# Altium footprint library smd_challenge_extreme.PcbLib: 9 footprints
Each footprint in its own frame and in the unit in brackets; x right, y up, seen from the top. Pads: shape width x height; smd on the part's side, far side on the other; paste and mask are expansions set on the pad; w line width, h text height; cw(c..) or ccw(c..) is an arc to the next point about the centre after c.
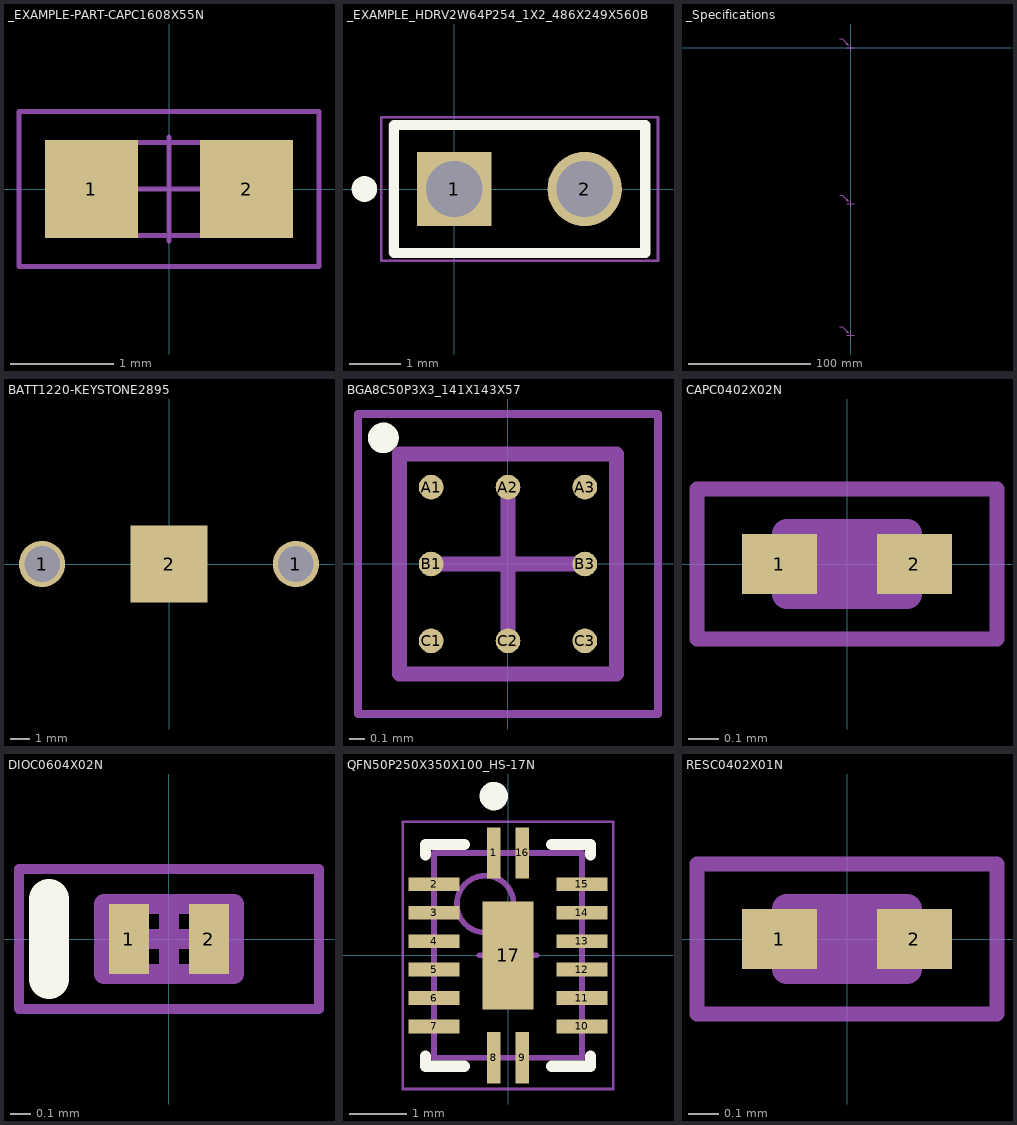
[diagram p0: the footprints below, top view; thin cyan lines are the x and y axes]

## _EXAMPLE-PART-CAPC1608X55N [mm] "Example part from IPC-7351 library. Created by: Adam, 29-Jan-2013"
height 0.55
pads (2):
  rect 0.9x0.95 smd: 1(-0.75,0) 2(0.75,0)
Mechanical 7:
  text ".Designator" at -0.8,-0.4 h1.5
Mechanical 13:
  lines w0.05: -0.85,-0.45 -0.85,0.45 0.85,0.45 0.85,-0.45 -0.85,-0.45
Mechanical 15:
  lines w0.05: -0.5,0 0.5,0 ; 0,-0.5 0,0.5 ; -1.45,-0.75 -1.45,0.75 1.45,0.75 1.45,-0.75 -1.45,-0.75
3D body: height 0.55, standoff 0, extent -0.849,-0.449 0.849,0.449

## _EXAMPLE_HDRV2W64P254_1X2_486X249X560B [mm]
height 5.6
pads (2):
  rect 1.45x1.45 / inner round 1.45 / far side rect 1.45x1.45 hole 1.1: 1(0,0)
  round 1.45 hole 1.1: 2(2.54,0)
Top Overlay:
  circle w0.25: c-1.755,0 r0.125
  lines w0.2: -1.18,-1.25 -1.18,1.25 3.72,1.25 3.72,-1.25 -1.18,-1.25
Mechanical 7:
  text ".Designator" at -0.8,-0.4 h1.27
Mechanical 12:
  lines w0.001: -1.27,-1.27 -1.27,1.27 3.81,1.27 3.81,-1.27 -1.27,-1.27
Mechanical 13:
  lines w0.01: -1.23,-1.3 -1.23,1.3 3.77,1.3 3.77,-1.3 -1.23,-1.3
Mechanical 15:
  lines w0.05: -0.5,0 0.5,0 ; 0,-0.5 0,0.5 ; -1.43,-1.4 -1.43,1.4 3.97,1.4 3.97,-1.4 -1.43,-1.4
  lines w0.1: -1.158,-1.245 -1.158,1.245 3.698,1.245 3.698,-1.245 -1.158,-1.245
3D body: height 5.6, standoff 0, extent -1.235,-1.305 3.775,1.305

## _Specifications [mm]
Mechanical 4:
  lines w0.1: -3,-236 0,-236 ; -3,-128 0,-128 ; -3,0 0,0 ; 0,-239 0,-236 ; 0,-233 0,-236 ; 0,-131 0,-128 ; 0,-125 0,-128 ; 0,-3 0,0 ; 0,3 0,0 ; 3,-236 0,-236 ; 3,-128 0,-128 ; 3,0 0,0
  lines w0.254: -8.869,-228.976 -7.024,-228.976 -2,-234 ; -8.869,-120.976 -7.024,-120.976 -2,-126 ; -8.869,7.024 -7.024,7.024 -2,2 ; -3.437,-233.282 -2,-234 ; -3.437,-125.282 -2,-126 ; -3.437,2.718 -2,2 ; -2.718,-232.563 -2,-234 ; -2.718,-124.563 -2,-126 ; -2.718,3.437 -2,2
  text "TESTING" at 0,-303 h1.2
  text "Via-in-pad:" at 0,-294 h1
  text "Minimum Hole Size:" at 0,-318 h1
  text "Minimum Trace Width:" at 0,-314 h1
  text "Slot Count:" at 0,-270 h1
  text "Hole Count:" at 0,-268 h1
  text "Filled vias:" at 0,-292 h1
  text "Overall thickness:" at 0,-284 h1
  text "Coverlay Thickness:" at 0,-288 h1
  text "Minimum Spacing:" at 0.18,-316.14 h1
  text "Coverlay Color:" at 0,-262 h1
  text "Silkscreen Color:" at 0,-266 h1
  text "Coverlay Layers:" at 0,-260 h1
  text "Coverlay Material:" at 0,-258 h1
  text "Finish:" at 0,-250 h1
  text "Solder Mask Color:" at 0,-256 h1
  text "Dielectric Material:" at 0,-246 h1
  text "Solder Mask Layers:" at 0,-254 h1
  text "GENERAL" at 0,-241 h1.2
  text "Copy Point" at -24,-229 h1.5
  text "TESTING" at 0,-187 h1.2
  text "Slot Count:" at 0,-156 h1
  text "Minimum Hole Size:" at 0,-202 h1
  text "Via-in-pad:" at 0,-178 h1
  text "Hole Count:" at 0,-154 h1
  text "Minimum Spacing:" at 0.18,-200.14 h1
  text "Overall thickness:" at 0,-170 h1
  text "Filled vias:" at 0,-176 h1
  text "Minimum Coverlay Dam (Sliver):" at 0,-330 h1
  text "Minimum Solder Mask Dam (Sliver):" at 0,-324 h1
  text "Minimum Coverlay to Pad Clearance:" at 0,-328 h1
  text "Minimum Silkscreen to Pad Clearance:" at 0,-326 h1
  text "Minimum Solder Mask to Pad Clearance:" at 0,-322 h1
  text "Minimum Annular Ring:" at 0,-320 h1
  text "DESIGN RULES (PROVIDED FOR REFERENCE ONLY)" at 0,-311 h1.2
  text "CRITICAL DIMENSIONS, TOLERANCES, AND SPECIAL FEATURES" at 0,-275 h1.2
  text "To be fully electrically tested for shorts and opens." at 0,-306 h1
  text "Controlled impedance:" at 0,-296 h1
  text "Blind or buried vias:" at 0,-290 h1
  text "Solder mask-defined pads:" at 0,-298 h1
  text "Minimum Solder Mask Thickness:" at 0,-286 h1
  text "Silkscreen Legend Layers:" at 0,-264 h1
  text "Solder Mask Material:" at 0,-252 h1
  text "Profile tolerance (outline):" at 0,-282 h1
  text "Tolerances not specified shall meet IPC-6013C Class 2 default requirements." at 0,-278 h1
  text "Dimensions are in millimeters (mm) unless otherwise specified." at 0,-280 h1
  text "Total Copper Layers:" at 0,-248 h1
  text "Build to IPC-6013C Class 2." at 0,-244 h1
  text "TYPICAL 2-LAYER FLEX W/ STIFFENER & SOLDERMASK SPECIFICATIONS" at -5,-228 h2.5
  text "Minimum Solder Mask Dam (Sliver):" at 0,-208 h1
  text "Minimum Annular Ring:" at 0,-204 h1
  text "Minimum Trace Width:" at 0,-198 h1
  text "Minimum Solder Mask to Pad Clearance:" at 0,-206 h1
  text "DESIGN RULES (PROVIDED FOR REFERENCE ONLY)" at 0,-195 h1.2
  text "CRITICAL DIMENSIONS, TOLERANCES, AND SPECIAL FEATURES" at 0,-161 h1.2
  text "Controlled impedance:" at 0,-180 h1
  text "Blind or buried vias:" at 0,-174 h1
  text "Minimum Silkscreen to Pad Clearance:" at 0,-210 h1
  text "Solder mask-defined pads:" at 0,-182 h1
  text "To be fully electrically tested for shorts and opens." at 0,-190 h1
  text "Minimum Solder Mask Thickness:" at 0,-172 h1
  text "Profile tolerance (outline):" at 0,-168 h1
  text "Dimensions are in millimeters (mm) unless otherwise specified." at 0,-166 h1
  text "Tolerances not specified shall meet IPC-6012C Class 2 default requirements." at 0,-164 h1
  text "See stack-up" at 30,-152 h1
  text "Dielectric Material:" at 0,-138 h1
  text "GENERAL" at 0,-133 h1.2
  text "Copy Point" at -24,-121 h1.5
  text "TESTING" at 0,-59 h1.2
  text "Finish:" at 0,-142 h1
  text "Silkscreen Color:" at 0,-152 h1
  text "Solder Mask Color:" at 0,-148 h1
  text "Minimum Hole Size:" at 0,-74 h1
  text "Via-in-pad:" at 0,-50 h1
  text "Minimum Spacing:" at 0,-72 h1
  text "GENERAL" at 0,-5 h1.2
  text "Hole Count:" at 0,-26 h1
  text "Silkscreen Color:" at 0,-24 h1
  text "Copy Point" at -24,7 h1.5
  text "Filled vias:" at 0,-48 h1
  text "Slot Count:" at 0,-28 h1
  text "Overall thickness:" at 0,-42 h1
  text "Solder Mask Layers:" at 0,-18 h1
  text "Solder Mask Color:" at 0,-20 h1
  text "Finish:" at 0,-14 h1
  text "Dielectric Material:" at 0,-10 h1
  text "Solder Mask Layers:" at 0,-146 h1
  text "Total Copper Layers:" at 0,-140 h1
  text "Silkscreen Legend Layers:" at 0,-150 h1
  text "Solder Mask Material:" at 0,-144 h1
  text "Build to IPC-6012C Class 2." at 0,-136 h1
  text "Minimum Silkscreen to Pad Clearance:" at 0,-82 h1
  text "TYPICAL 2-LAYER RIGID BOARD SPECIFICATIONS" at -5,-120 h2.5
  text "DESIGN RULES (PROVIDED FOR REFERENCE ONLY)" at 0,-67 h1.2
  text "Minimum Copper to Board Edge Clearance:" at 0,-84 h1
  text "Minimum Solder Mask Dam (Sliver):" at 0,-80 h1
  text "Minimum Annular Ring:" at 0,-76 h1
  text "ENIG per IPC-4552" at 30,-142 h1
  text "Minimum Solder Mask to Pad Clearance:" at 0,-78 h1
  text "Minimum Trace Width:" at 0,-70 h1
  text "Controlled impedance:" at 0,-52 h1
  text "To be fully electrically tested for shorts and opens." at 0,-62 h1
  text "Solder mask-defined pads:" at 0,-54 h1
  text "No" at 30,-54 h1
  text "Blind or buried vias:" at 0,-46 h1
  text "Profile tolerance (outline):" at 0,-40 h1
  text "Minimum solder mask thickness:" at 0,-44 h1
  text "Dimensions are in millimeters (mm) unless otherwise specified." at 0,-38 h1
  text "Solder Mask Material:" at 0,-16 h1
  text "Build to IPC-6012C Class 2." at 0,-8 h1
  text "Tolerances not specified shall meet IPC-6012C Class 2 default requirements." at 0,-36 h1
  text "TYPICAL (BLANKS FOR LAYERS & DESIGN RULES)" at -4,8 h2.5
  text "CRITICAL DIMENSIONS, TOLERANCES, AND SPECIAL FEATURES" at 0,-33 h1.2
  text "No" at 30,-52 h1
  text "No" at 30,-50 h1
  text "No" at 30,-48 h1
  text "See stack-up." at 30,-24 h1
  text "0.010mm" at 30,-44 h1
  text "Silkscreen Legend Layers:" at 0,-22 h1
  text "Total Copper Layers:" at 0,-12 h1
  text "See stack-up." at 30,-22 h1
  text "?" at 30,-12 h1
  text "LPI" at 30,-16 h1
  text ".slotHole_Count" at 30,-270 h1
  text ".hole_Count" at 30,-268 h1
  text "See stack-up" at 30,-266 h1
  text "See stack-up." at 30,-264 h1
  text "Polyimide" at 30,-258 h1
  text "2 SMOBC" at 30,-254 h1
  text "See stack-up." at 30,-262 h1
  text "See stack-up." at 30,-256 h1
  text "See stack-up" at 30,-260 h1
  text "No" at 31,-294 h1
  text "No" at 31,-292 h1
  text "No" at 31,-298 h1
  text "No" at 31,-296 h1
  text "No" at 31,-290 h1
  text "0.010mm" at 31,-286 h1
  text "+/- 0.25mm" at 31,-282 h1
  text "2" at 30,-248 h1
  text ".slotHole_Count" at 30,-156 h1
  text "LPI" at 30,-252 h1
  text "See stackup." at 30,-246 h1
  text ".hole_Count" at 30,-154 h1
  text "2" at 30,-140 h1
  text "See stack-up." at 30,-150 h1
  text "LPI" at 30,-144 h1
  text "2 SMOBC" at 30,-146 h1
  text "No" at 31,-176 h1
  text "No" at 31,-174 h1
  text "No" at 31,-182 h1
  text "No" at 31,-178 h1
  text "No" at 31,-180 h1
  text "0.010mm" at 31,-172 h1
  text "See stack-up." at 30,-148 h1
  text "+/- 0.25mm" at 31,-168 h1
  text "?(?mm)?" at 38,-328 h1
  text "(0.1mm)" at 38,-322 h1
  text "?(?mm)?" at 38,-330 h1
  text "(0.12mm)" at 38,-324 h1
  text "See stack-up." at 31.02,-288 h1
  text "See stack-up." at 31,-284 h1
  text "(0.15mm)" at 38,-320 h1
  text "ENIG per IPC-4552" at 30,-250 h1
  text "(0.2mm)" at 38,-318 h1
  text "(0.12mm)" at 38,-316 h1
  text "(0.15mm)" at 38,-314 h1
  text "(0.25mm)" at 38,-326 h1
  text "(0.12mm)" at 38,-208 h1
  text "(0.1mm)" at 38,-206 h1
  text "(0.25mm)" at 38,-210 h1
  text "(0.15mm)" at 38,-204 h1
  text "(0.2mm)" at 38,-202 h1
  text "(0.12mm)" at 38,-200 h1
  text "(0.15mm)" at 38,-198 h1
  text "See stack-up." at 31,-170 h1
  text "FR-4 or equivalent UL94V-0, Tg > 170C, RoHS" at 30,-138 h1
  text "Coverlay-defined pads:" at 120,-169 h1
  text "Coverlay Layers:" at 120,-137 h1
  text "Minimum Coverlay Dam (Sliver):" at 120,-206 h1
  text "Minimum Coverlay to Pad Clearance:" at 120,-204 h1
  text "?(?mm)?" at 158,-206 h1
  text "Yes" at 151,-169 h1
  text "?(?mm)?" at 158,-204 h1
  text "Coverlay Thickness:" at 120,-167 h1
  text "Coverlay Color:" at 120,-139 h1
  text "See stack-up." at 151,-167 h1
  text "Top and Bottom  OR See stack-up" at 155,-137 h1
  text "Black OR Natural OR  See stack-up." at 155,-139 h1
  text "(?mm)" at 40,-82 h1
  text "(?mm)" at 40,-80 h1
  text "(?mm)" at 40,-84 h1
  text "(?mm)" at 40,-72 h1
  text "(?mm)" at 40,-70 h1
  text "(?mm)" at 40,-78 h1
  text "(?mm)" at 40,-74 h1
  text "(?mm)" at 40,-76 h1
  text "Finish Thickness:" at 120,-67 h1
  text "Coverlay Material:" at 120,-135 h1
  text "Build to IPC-6013C Class 2." at 120,-133 h1
  text "Slot tolerance:" at 120,-61 h1
  text "Plated via hole tolerance:" at 120,-57 h1
  text "Conductor spacing tolerance:" at 120,-65 h1
  text "Plated through hole tolerance:" at 120,-55 h1
  text "Conductor width tolerance:" at 120,-63 h1
  text "No" at 30,-46 h1
  text ".slotHole_Count" at 30,-28 h1
  text "See stack-up." at 30,-42 h1
  text "+/- 0.25mm" at 30,-40 h1
  text ".hole_Count" at 30,-26 h1
  text "2 SMOBC" at 30,-18 h1
  text "See stack-up." at 30,-20 h1
  text "FR-4 or equivalent UL94V-0, Tg > 170C, RoHS" at 30,-10 h1
  text "ENIG per IPC-4552" at 30,-14 h1
  text "Copper inner foil thickness:" at 120,-51 h1
  text "(106um +/- 10%) OR See stackup." at 120,-47 h1
  text "0.4mil OR see stackup." at 120,-49 h1
  text "OR See stackup." at 119,-24 h1
  text "ADDITIONAL SPECS FOR FLEXES" at 117,-120 h2.5
  text "?(?mil)? (Multek recommends 0.25mm or 10mil)" at 120,-89 h1
  text "(cirexx can do 0.2mm bigger pad than hole, but 0.3mm is more comfortable)" at 120,-83 h1
  text "(Cirexx recommends no higher than 8:1 aspect ratio of drill size to board thickness (so for 0.15mm hole, max overall thickness = 1.2mm)" at 120,-81 h1
  text "Minimum Silkscreen to Board Outline Clearance:" at 120,-73 h1
  text "Nonplated through hole tolerance:" at 120,-59 h1
  text "Vendor is approved to add teardrops at pads and vias as necessary." at 120,-71 h1
  text "Vias-in-pad shall be filled and plated over (VIPPO)." at 120,-69 h1
  text "?typ = +/- 3mil?" at 153,-59 h1
  text "Polyimide with adhesive OR see stack-up." at 155,-135 h1
  text "?(?mm)? (Multek recommends 0.30mm or 12mil)" at 168,-73 h1
  text "Apply Eccobond 45, (black? or clear?), at rigid section to flex section boundaries." at 221,-133 h1
  text "ADDITIONAL SPECS FOR RIGID FLEXES" at 221,-120 h2.5
  text "?typ = +/- 4mil?" at 153,-61 h1
  text "Au: 0.03um minimum, Ni: 1-3um (IPC class 2 is 0.05um AU min, 3um Ni min) OR see stackup." at 153,-67 h1
  text "(IPC class 2 = +/- 20%) Per IPC-6012C Class 2." at 153,-63 h1
  text "(IPC class 2 = +/- 30%)" at 153,-65 h1
  text "Copper outer finished thickness:" at 120,-53 h1
  text "Black OR Green OR Red OR Blue OR See stack-up." at 119,-20 h1
  text "?typ = +/- 4mil is IPC class 2?" at 153,-55 h1
  text "Vendor specified, subject to approval (default for IPC class 2 = 0.5mm or 20mil, typ for flex with stiffener is +/- 12mil or 0.30mm, typical for flex only regions is 0.15mm  or 6 mil)" at 120,-45 h1
  text "?SMOBC on ?top? and ?bottom? [OR] See stack-up." at 119,-18 h1
  text "?ENIG per IPC-4552? ?ROHS? ?HAL Lead Free (RoHS)?" at 119,-14 h1
  text "?FR-4 TG140? ROHS? [OR] ?FR-4 or equivalent, UL94V-0, Tg > 170C, RoHS? See stack-up?" at 119,-10 h1
  text "ALTERNATE AND/OR ADDITIONAL SPECIFICATIONS" at 117,8 h2.5
  text "Build to ?IPC-6013C(flex)? OR ?IPC-6012C(rigid)?, Class ?2? OR ?1?." at 119,-8 h1
  text "See stack-up." at 153,-53 h1
  text "See stack-up." at 153,-51 h1
  text "?typ = +/- 3mil?" at 153,-57 h1
Mechanical 5:
  text "Solder paste type: No Clean Type 4 or finer" at 82,-245 h0.8
  text "Solder paste stencil thickness: 125 um" at 82,-243 h0.8
  text "GENERAL" at 82,-241 h1
  text "Solder paste type: No Clean Type 4 or finer" at 82,-137 h0.8
  text "GENERAL" at 82,-133 h1
  text "Solder paste stencil thickness: 125 um" at 82,-135 h0.8
  text "Solder paste stencil thickness: 125 um" at 82,-7 h0.8
  text "GENERAL" at 82,-5 h1
  text "Solder paste type: No Clean Type 4 or finer" at 82,-9 h0.8
  text "Solder paste layers are included in assembly package (gerber and ODB++)" at 82,-13 h0.8
  text "All BGA components shall be underfilled" at 208,-18.855 h0.8
  text "part datasheet for correct orientation." at 210,-17 h0.8
  text "Solder paste stencil thickness: 125 um" at 208,-11 h0.8
  text "Solder paste layers are included in" at 208,-7 h0.8
  text "LED Cathodes are identified, refer  to" at 208,-15 h0.8
  text "Solder paste type: No Clean Type 4 or finer" at 208,-13 h0.8
  text "assembly package (gerber and ODB++)" at 210,-9 h0.8

## BATT1220-KEYSTONE2895 [mm]
height 2.41
pads (3):
  round 2.4 hole 1.85: 1(-6.6,0) 1(6.6,0)
  rect 4x4 smd: 2(0,0)
3D body "User Library-Keystone3001-1.STEP": height 3, standoff -2.2, extent -7.45,-6.7 7.45,5.998

## BGA8C50P3X3_141X143X57 [mm] "BGA, 8-Leads, Body 1.41x1.43mmx0.57mm, Pitch 0.50mm"
height 0.58
pads (8):
  round 0.16 smd paste+0.07 mask+0.05: A1(-0.5,0.5) A2(0,0.5) A3(0.5,0.5) B1(-0.5,0) B3(0.5,0) C1(-0.5,-0.5) C2(0,-0.5) C3(0.5,-0.5)
Top Overlay:
  circle w0.1: c-0.81,0.82 r0.05
Mechanical 13:
  lines w0.1: -0.705,-0.715 0.705,-0.715 0.705,0.715 -0.705,0.715 -0.705,-0.715
Mechanical 15:
  lines w0.05: -0.975,-0.975 0.975,-0.975 0.975,0.975 -0.975,0.975 -0.975,-0.975
  lines w0.1: -0.5,0 0.5,0 ; 0,-0.5 0,0.5
3D body "BGA8C50P3X3_141X143X57.step": height 0.58, standoff 0, extent -0.705,-0.715 0.705,0.715

## CAPC0402X02N [mm] "Chip Capacitor, 2-Leads, Body 0.40x0.20mm, IPC Medium Density"
height 0.2
pads (2):
  rect 0.25x0.2 smd: 1(-0.225,0) 2(0.225,0)
Mechanical 13:
  lines w0.1: -0.2,-0.1 -0.2,0.1 0.2,0.1 0.2,-0.1 -0.2,-0.1
Mechanical 15:
  lines w0.05: -0.5,-0.25 -0.5,0.25 0.5,0.25 0.5,-0.25 -0.5,-0.25
  lines w0.1: -0.1,0 0.1,0 ; 0,-0.1 0,0.1
3D body "CAPC0402X02N.step": height 0.2, standoff 0, extent -0.2,-0.1 0.2,0.1

## DIOC0604X02N [mm] "Chip Diode, 2-Leads, Body 0.65x0.35mm, IPC Medium Density"
height 0.2
pads (2):
  rect 0.2x0.35 smd: 1(-0.2,0) 2(0.2,0)
Top Overlay:
  lines w0.2: -0.6,-0.2 -0.6,0.2
Mechanical 13:
  lines w0.1: -0.325,-0.175 0.325,-0.175 0.325,0.175 -0.325,0.175 -0.325,-0.175
Mechanical 15:
  lines w0.05: -0.75,-0.35 0.75,-0.35 0.75,0.35 -0.75,0.35 -0.75,-0.35
  lines w0.1: -0.175,0 0.175,0 ; 0,-0.175 0,0.175
3D body "DIOC0604X02N.step": height 0.2, standoff 0, extent -0.325,-0.175 0.325,0.175

## QFN50P250X350X100_HS-17N [mm] "QFN, 16-Leads, Body 2.50x3.50mm, Pitch 0.50mm, Thermal Pad 0.90x1.90mm, IPC Medium Density"
height 1
pads (17):
  rect 0.24x0.9 smd: 1(-0.25,1.8) 8(-0.25,-1.8) 9(0.25,-1.8) 16(0.25,1.8)
  rect 0.9x0.24 smd: 2(-1.3,1.25) 3(-1.3,0.75) 4(-1.3,0.25) 5(-1.3,-0.25) 6(-1.3,-0.75) 7(-1.3,-1.25) 10(1.3,-1.25) 11(1.3,-0.75) 12(1.3,-0.25) 13(1.3,0.25) 14(1.3,0.75) 15(1.3,1.25)
  rect 0.9x1.9 smd: 17(0,0)
Top Overlay:
  circle w0.25: c-0.25,2.8 r0.125
  lines w0.2: -1.45,-1.77 -1.45,-1.95 -0.77,-1.95 ; -1.45,1.77 -1.45,1.95 -0.77,1.95 ; 0.77,-1.95 1.45,-1.95 1.45,-1.77 ; 0.77,1.95 1.45,1.95 1.45,1.77
Mechanical 13:
  circle w0.1: c-0.4,0.9 r0.5
  lines w0.1: -1.3,-1.8 1.3,-1.8 1.3,1.8 -1.3,1.8 -1.3,-1.8
Mechanical 15:
  lines w0.05: -1.85,-2.35 1.85,-2.35 1.85,2.35 -1.85,2.35 -1.85,-2.35
  lines w0.1: -0.5,0 0.5,0 ; 0,-0.5 0,0.5
3D body "QFN50P250X350X100_HS-17N.step": height 1, standoff 0, extent -1.301,-1.801 1.301,1.801

## RESC0402X01N [mm] "Chip Resistor, 2-Leads, Body 0.40x0.20mm, IPC Medium Density"
height 0.13
pads (2):
  rect 0.25x0.2 smd: 1(-0.225,0) 2(0.225,0)
Mechanical 13:
  lines w0.1: -0.2,-0.1 -0.2,0.1 0.2,0.1 0.2,-0.1 -0.2,-0.1
Mechanical 15:
  lines w0.05: -0.5,-0.25 -0.5,0.25 0.5,0.25 0.5,-0.25 -0.5,-0.25
  lines w0.1: -0.1,0 0.1,0 ; 0,-0.1 0,0.1
3D body: height 0.13, standoff 0, extent -0.1,-0.1 0.1,0.1
3D body: height 0.13, standoff 0, extent -0.2,-0.1 -0.1,0.1
3D body: height 0.13, standoff 0, extent 0.1,-0.1 0.2,0.1